# Altium footprint library transform.PcbLib: 53 footprints (part 4 of 4)
Each footprint in its own frame and in the unit in brackets; x right, y up, seen from the top. Pads: shape width x height; smd on the part's side, far side on the other; paste and mask are expansions set on the pad; w line width, h text height; cw(c..) or ccw(c..) is an arc to the next point about the centre after c.
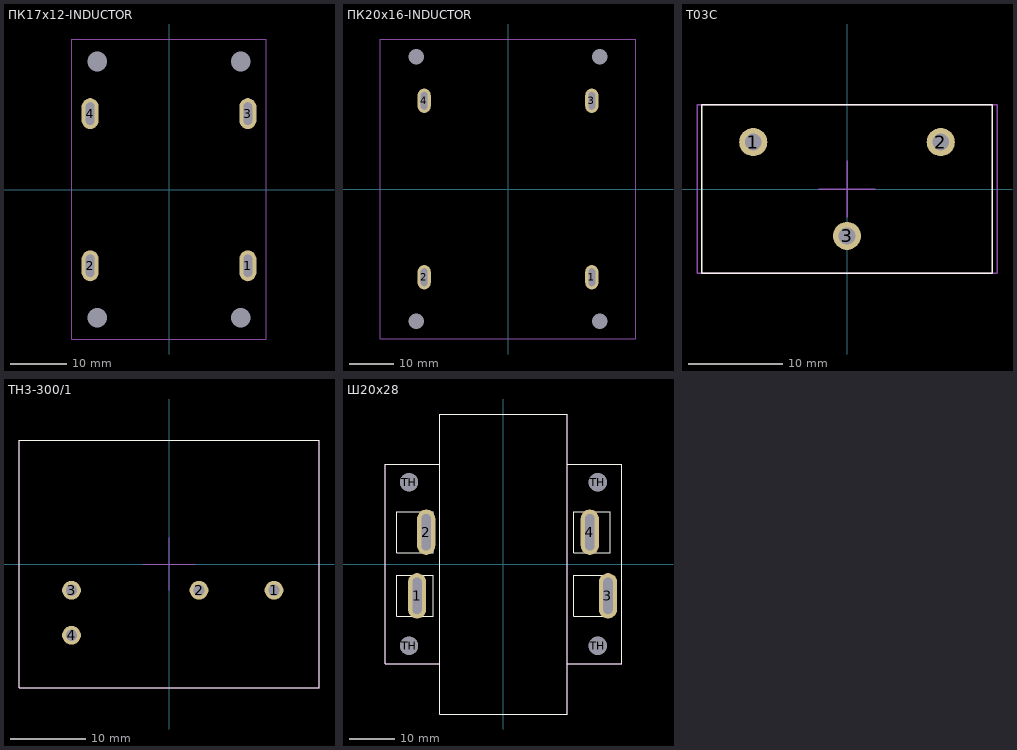
[diagram p3: the footprints below, top view; thin cyan lines are the x and y axes]

## ПК17х12-INDUCTOR [mm]
height 25
pads (8):
  oval 3x5.5 hole 1.5 slot 4 at 90 deg unplated: 1(14,-13.5) 2(-14,-13.5) 3(14,13.5) 4(-14,13.5)
  round 0 hole 3.5 unplated: TH(-12.75,-22.75) TH(-12.75,22.75) TH(12.75,-22.75) TH(12.75,22.75)
Mechanical 29:
  lines w0.15: -17.25,-26.5 -17.25,26.75 17.25,26.75 17.25,-26.5 -17.25,-26.5
3D body "дроссель.STEP": height 26, standoff 0, extent -17.25,-26.65 17.35,26.65

## ПК20х16-INDUCTOR [mm]
height 30
pads (8):
  oval 3x5.5 hole 1.5 slot 4 at 90 deg unplated: 1(19,-20) 2(-19,-20) 3(19,20) 4(-19,20)
  round 0 hole 3.5 unplated: TH(-20.75,-30) TH(-20.75,30) TH(20.75,-30) TH(20.75,30)
Mechanical 29:
  lines w0.15: -29,-34 -29,34 29,34 29,-34 -29,-34
3D body "дроссель2000.STEP": height 35, standoff 0, extent -28.85,-34 28.95,34

## Т03С [mm]
height 32
pads (3):
  round 3 hole 1.8: 1(-10,5) 2(10,5) 3(0,-5)
Top Overlay:
  lines w0.15: -15.5,-9 15.5,-9 15.5,9 -15.5,9 -15.5,-9
Mechanical 15:
  lines w0.15: -3,0 3,0 ; 0,-3 0,3
Mechanical 29:
  lines w0.15: -16,-9 16,-9 16,9 -16,9 -16,-9
3D body "Т03С.STEP": height 31, standoff -5, extent -15.5,-8.5 15.5,8.5

## ТН3-300/1 [mm]
height 40
pads (4):
  round 2.5 hole 1.5: 1(14,-3.5) 2(4,-3.5) 3(-13,-3.5) 4(-13,-9.5)
Top Overlay:
  lines w0.15: -20,-16.5 20,-16.5 20,16.5 -20,16.5 -20,-16.5
Mechanical 15:
  lines w0.15: -3.5,0 3.5,0 ; 0,-3.5 0,3.5
Mechanical 29:
  lines w0.15: -20,-16.5 -20,16.5 20,16.5 20,-16.5 -20,-16.5
3D body: height 40, standoff 0.5, extent -20,-16.5 20,16.5

## Ш20х28 [mm]
height 60
pads (8):
  oval 4x10 hole 2 slot 8 at 90 deg: 1(-19,-7) 2(-17,7) 3(23,-7) 4(19,7)
  round 4 hole 4 unplated: TH(-20.75,-18) TH(-20.75,18) TH(20.75,-18) TH(20.75,18)
Top Overlay:
  lines w0.15: -14,-22 -26,-22 -26,0 -26,22 -14,22 ; 14,-22 26,-22 26,0 26,22 14,22 ; -23.5,-11.5 -15.5,-11.5 -15.5,-2.5 -23.5,-2.5 -23.5,-11.5 ; -23.5,2.5 -23.5,11.5 -15.5,11.5 -15.5,2.5 -23.5,2.5 ; -14,-33 -14,33 14,33 14,-33 -14,-33 ; 15.5,-11.5 23.5,-11.5 23.5,-2.5 15.5,-2.5 15.5,-11.5 ; 15.5,2.5 15.5,11.5 23.5,11.5 23.5,2.5 15.5,2.5
Mechanical 29:
  lines w0.15: -14,-22 -26,-22 -26,0 -26,22 -14,22 ; 14,-22 26,-22 26,0 26,22 14,22 ; -14,-33 14,-33 14,33 -14,33 -14,-33
3D body "Сборка.STEP": height 68.38, standoff 0.38, extent -26,-32.5 26,32.5